# Altium footprint library PcbLib2.PcbLib: 1 footprints
Each footprint in its own frame and in the unit in brackets; x right, y up, seen from the top. Pads: shape width x height; smd on the part's side, far side on the other; paste and mask are expansions set on the pad; w line width, h text height; cw(c..) or ccw(c..) is an arc to the next point about the centre after c.
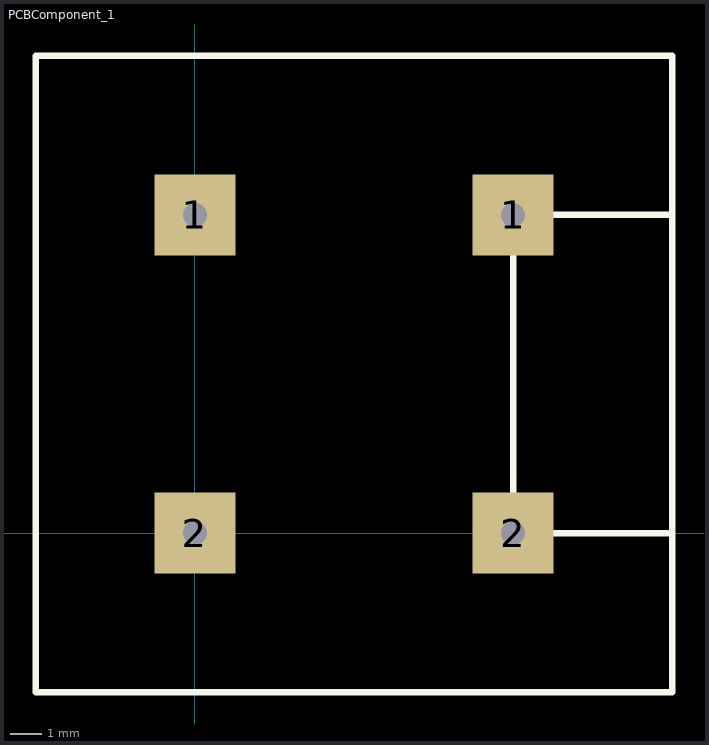
[diagram p0: the footprint, top view; thin cyan lines are the x and y axes]

## PCBComponent_1 [mil]
pads (4):
  rect 100x100 hole 30: 1(0,392.91) 1(392.91,392.91) 2(0,0) 2(392.91,0)
Top Overlay:
  lines w7.87: 589.37,0 392.91,0 392.91,392.91 589.37,392.91 ; -196.46,-196.46 -196.46,589.37 589.37,589.37 589.37,-196.46 -196.46,-196.46